# EAGLE library part LTC3350EUHF#PBF (library Deegou_IC)
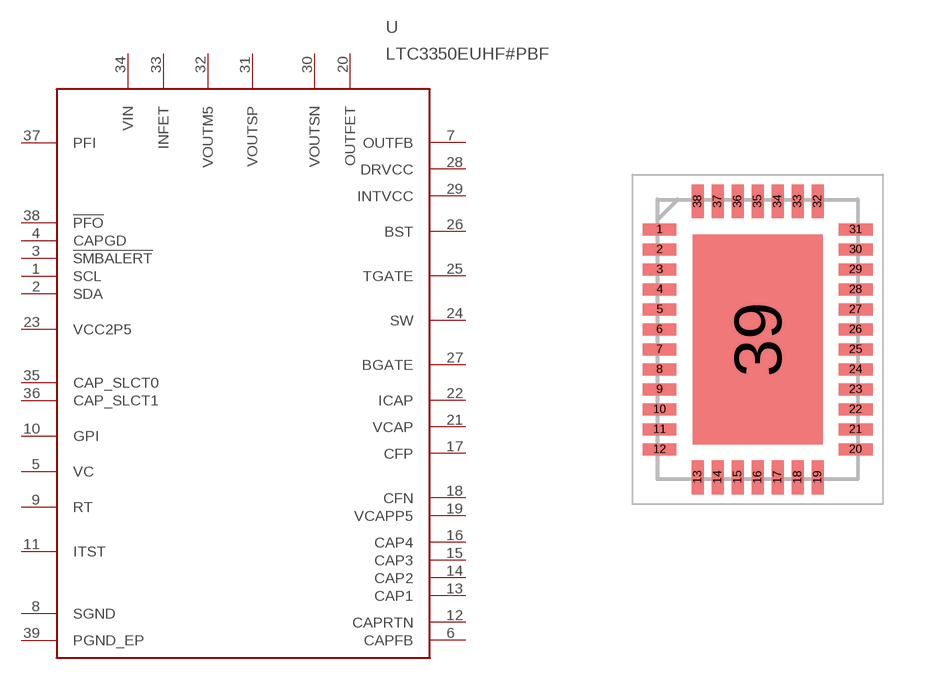
[diagram p99: symbol with the pads of QFN50P500X700X80-39N; footprint QFN50P500X700X80-39N]

Designator prefix U

## LTC3350EUHF#PBF (ARROW_PART_NUMBER: LTC3350EUHF#PBF; ARROW_PRICE-STOCK: https://www.arrow.com/en/products/ltc3350euhfpbf/linear-technology; DESCRIPTION: High Current Supercapacitor Backup Controller and System Monitor; HEIGHT: 0.8mm; MANUFACTURER_NAME: Linear Technology; MANUFACTURER_PART_NUMBER: LTC3350EUHF#PBF)  [QFN50P500X700X80-39N]
1  SCL
2  SDA
3  !SMBALERT
4  CAPGD
5  VC
6  CAPFB
7  OUTFB  out
8  SGND  pwr
9  RT
10  GPI
11  ITST
12  CAPRTN
13  CAP1
14  CAP2
15  CAP3
16  CAP4
17  CFP
18  CFN
19  VCAPP5
20  OUTFET  out
21  VCAP
22  ICAP
23  VCC2P5  pwr
24  SW
25  TGATE
26  BST
27  BGATE
28  DRVCC  pwr
29  INTVCC  pwr
30  VOUTSN  out
31  VOUTSP  out
32  VOUTM5  out
33  INFET  in
34  VIN  in
35  CAP_SLCT0
36  CAP_SLCT1
37  PFI
38  !PFO
39  PGND_EP  pwr

## Footprint QFN50P500X700X80-39N (pad centres in mm)
UHF (38-Lead QFN)
smd 0.85 x 0.3: 1 -2.45,2.75; 2 -2.45,2.25; 3 -2.45,1.75; 4 -2.45,1.25; 5 -2.45,0.75; 6 -2.45,0.25; 7 -2.45,-0.25; 8 -2.45,-0.75; 9 -2.45,-1.25; 10 -2.45,-1.75; 11 -2.45,-2.25; 12 -2.45,-2.75; 20 2.45,-2.75; 21 2.45,-2.25; 22 2.45,-1.75; 23 2.45,-1.25; 24 2.45,-0.75; 25 2.45,-0.25; 26 2.45,0.25; 27 2.45,0.75; 28 2.45,1.25; 29 2.45,1.75; 30 2.45,2.25; 31 2.45,2.75
smd 0.3 x 0.85: 13 -1.5,-3.45; 14 -1,-3.45; 15 -0.5,-3.45; 16 0,-3.45; 17 0.5,-3.45; 18 1,-3.45; 19 1.5,-3.45; 32 1.5,3.45; 33 1,3.45; 34 0.5,3.45; 35 0,3.45; 36 -0.5,3.45; 37 -1,3.45; 38 -1.5,3.45
smd 3.25 x 5.25: 39 0,0